# Altium schematic symbol library 47 RESISTORS_THD_AX14_8mm_S.SchLib: 9 symbols
Pins are listed as number, name and electrical type; pins without a type are passive.

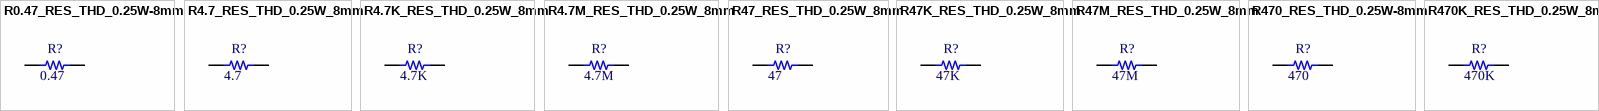
[diagram p0: symbols R0.47_RES_THD_0.25W-8mm to R470K_RES_THD_0.25W_8mm]

## R0.47_RES_THD_0.25W-8mm
designator R?  value 0.47  (hidden comment: *)
RESISTOR_0.47Ohm_THD_0.25W-8mm; Pacakge: THT; Rating: 0.25W; Type: 5%
footprint R0.47_RES_THD_AX14_0.25W (RESISTOR 0.47 Ohm  THD AX14 0.25W Length  8mm)
pins: 1, 2

## R4.7_RES_THD_0.25W_8mm
designator R?  value 4.7  (hidden comment: *)
RESISTOR_4.7Ohm_THD_0.25W-8mm; Pacakge: THT; Rating: 0.25W; Type: 5%
footprint R4.7_RES_THD_AX14_0.25W (RESISTOR 4.7 Ohm  THD AX14 0.25W Length  8mm)
pins: 1, 2

## R4.7K_RES_THD_0.25W_8mm
designator R?  value 4.7K  (hidden comment: *)
RESISTOR_4.7KOhm_THD_0.25W-8mm; Pacakge: THT; Rating: 0.25W; Type: 5%
footprint R4.7K_RES_THD_AX14_0.25W (RESISTOR 4.7K Ohm  THD AX14 0.25W Length  8mm)
pins: 1, 2

## R4.7M_RES_THD_0.25W_8mm
designator R?  value 4.7M  (hidden comment: *)
RESISTOR_4.7MOhm_THD_0.25W-8mm; Pacakge: THT; Rating: 0.25W; Type: 5%
footprint R4.7M_RES_THD_AX14_0.25W (RESISTOR 4.7M Ohm  THD AX14 0.25W Length  8mm)
pins: 1, 2

## R47_RES_THD_0.25W_8mm
designator R?  value 47  (hidden comment: *)
RESISTOR_47Ohm_THD_0.25W-8mm; Pacakge: THT; Rating: 0.25W; Type: 5%; Parameter 1: *
footprint R47_RES_THD_AX14_0.25W (RESISTOR 47 Ohm  THD AX14 0.25W Length  8mm)
pins: 1, 2

## R47K_RES_THD_0.25W_8mm
designator R?  value 47K  (hidden comment: *)
RESISTOR_47KOhm_THD_0.25W-8mm; Pacakge: THT; Rating: 0.25W; Type: 5%
footprint R47K_RES_THD_AX14_0.25W (RESISTOR 47K Ohm  THD AX14 0.25W Length  8mm)
pins: 1, 2

## R47M_RES_THD_0.25W_8mm
designator R?  value 47M  (hidden comment: *)
RESISTOR_47MOhm_THD_0.25W-8mm; Pacakge: THT; Rating: 0.25W; Type: 5%
footprint R47M_RES_THD_AX14_0.25W (RESISTOR 47M Ohm  THD AX14 0.25W Length  8mm)
pins: 1, 2

## R470_RES_THD_0.25W-8mm
designator R?  value 470  (hidden comment: *)
RESISTOR_470Ohm_THD_0.25W-8mm; Pacakge: THT; Rating: 0.25W; Type: 5%; Parameter 1: *
footprint R470_RES_THD_AX14_0.25W (RESISTOR 470 Ohm  THD AX14 0.25W Length  8mm)
pins: 1, 2

## R470K_RES_THD_0.25W_8mm
designator R?  value 470K  (hidden comment: *)
RESISTOR_470KOhm_THD_0.25W-8mm; Pacakge: THT; Rating: 0.25W; Type: 5%
footprint R470K_RES_THD_AX14_0.25W (RESISTOR 470K Ohm  THD AX14 0.25W Length  8mm)
pins: 1, 2